# EAGLE library part PIC16F1503-X_MG (library pic16f1503_qfn_mg)
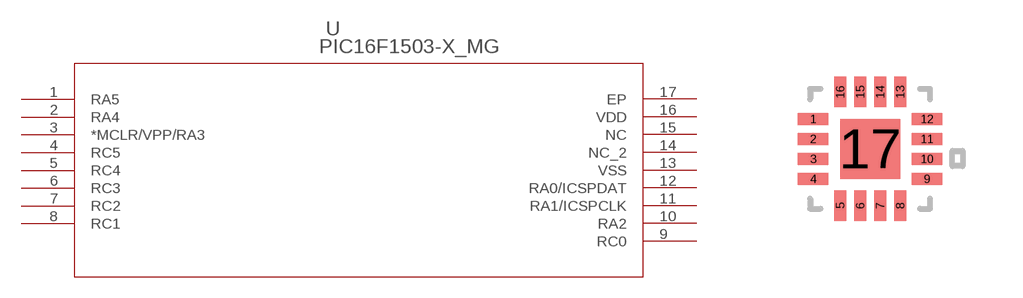
[diagram p0: symbol with the pads of QFN16_3X3MC; footprint QFN16_3X3MC]

Designator prefix U

## PIC16F1503-X_MG  [QFN16_3X3MC]
1  RA5
2  RA4
3  *MCLR/VPP/RA3
4  RC5
5  RC4
6  RC3
7  RC2
8  RC1
9  RC0
10  RA2
11  RA1/ICSPCLK
12  RA0/ICSPDAT
13  VSS  pwr
14  NC_2  nc
15  NC  nc
16  VDD  pwr
17  EP  pas

## Footprint QFN16_3X3MC (pad centres in mm)
smd 0.762 x 0.305: 1 -1.422,0.75; 2 -1.422,0.25; 3 -1.422,-0.25; 4 -1.422,-0.75; 9 1.422,-0.75; 10 1.422,-0.25; 11 1.422,0.25; 12 1.422,0.75
smd 0.305 x 0.762: 5 -0.75,-1.422; 6 -0.25,-1.422; 7 0.25,-1.422; 8 0.75,-1.422; 13 0.75,1.422; 14 0.25,1.422; 15 -0.25,1.422; 16 -0.75,1.422
smd 1.499 x 1.499: 17 0,0